# EAGLE library part 10029449-111RLF (library con-amphenol)
HDMI 1.4 Receptacle
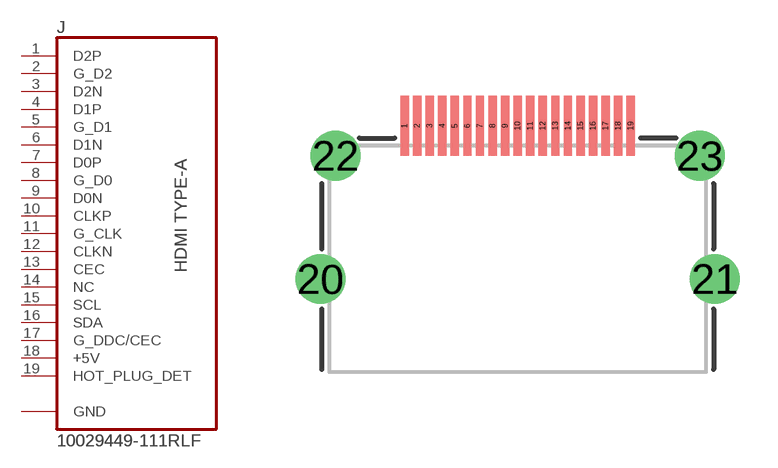
[diagram p13: symbol with the pads of 1002944111; footprint 1002944111]

Designator prefix J

## 10029449-111RLF  [1002944111]
1  D2P  pas
2  G_D2  pas
3  D2N  pas
4  D1P  pas
5  G_D1  pas
6  D1N  pas
7  D0P  pas
8  G_D0  pas
9  D0N  pas
10  CLKP  pas
11  G_CLK  pas
12  CLKN  pas
13  CEC  pas
14  NC  pas
15  SCL  pas
16  SDA  pas
17  G_DDC/CEC  pas
18  +5V  pas
19  HOT_PLUG_DET  pas
20  GND  pas
21  GND  pas
22  GND  pas
23  GND  pas

## Footprint 1002944111 (pad centres in mm)
smd 0.33 x 2.388: 1 -4.5,1.194; 2 -4,1.194; 3 -3.5,1.194; 4 -3,1.194; 5 -2.5,1.194; 6 -2,1.194; 7 -1.5,1.194; 8 -1,1.194; 9 -0.5,1.194; 10 0,1.194; 11 0.5,1.194; 12 1,1.194; 13 1.5,1.194; 14 2,1.194; 15 2.5,1.194; 16 3,1.194; 17 3.5,1.194; 18 4,1.194; 19 4.5,1.194
drill 1.321 pad 1.829: 20 -7.85,-4.9; 21 7.85,-4.9; 22 -7.25,0; 23 7.25,0